# Altium footprint library AltiumDesigner.PcbLib: 151 footprints (part 6 of 10)
Each footprint in its own frame and in the unit in brackets; x right, y up, seen from the top. Pads: shape width x height; smd on the part's side, far side on the other; paste and mask are expansions set on the pad; w line width, h text height; cw(c..) or ccw(c..) is an arc to the next point about the centre after c.
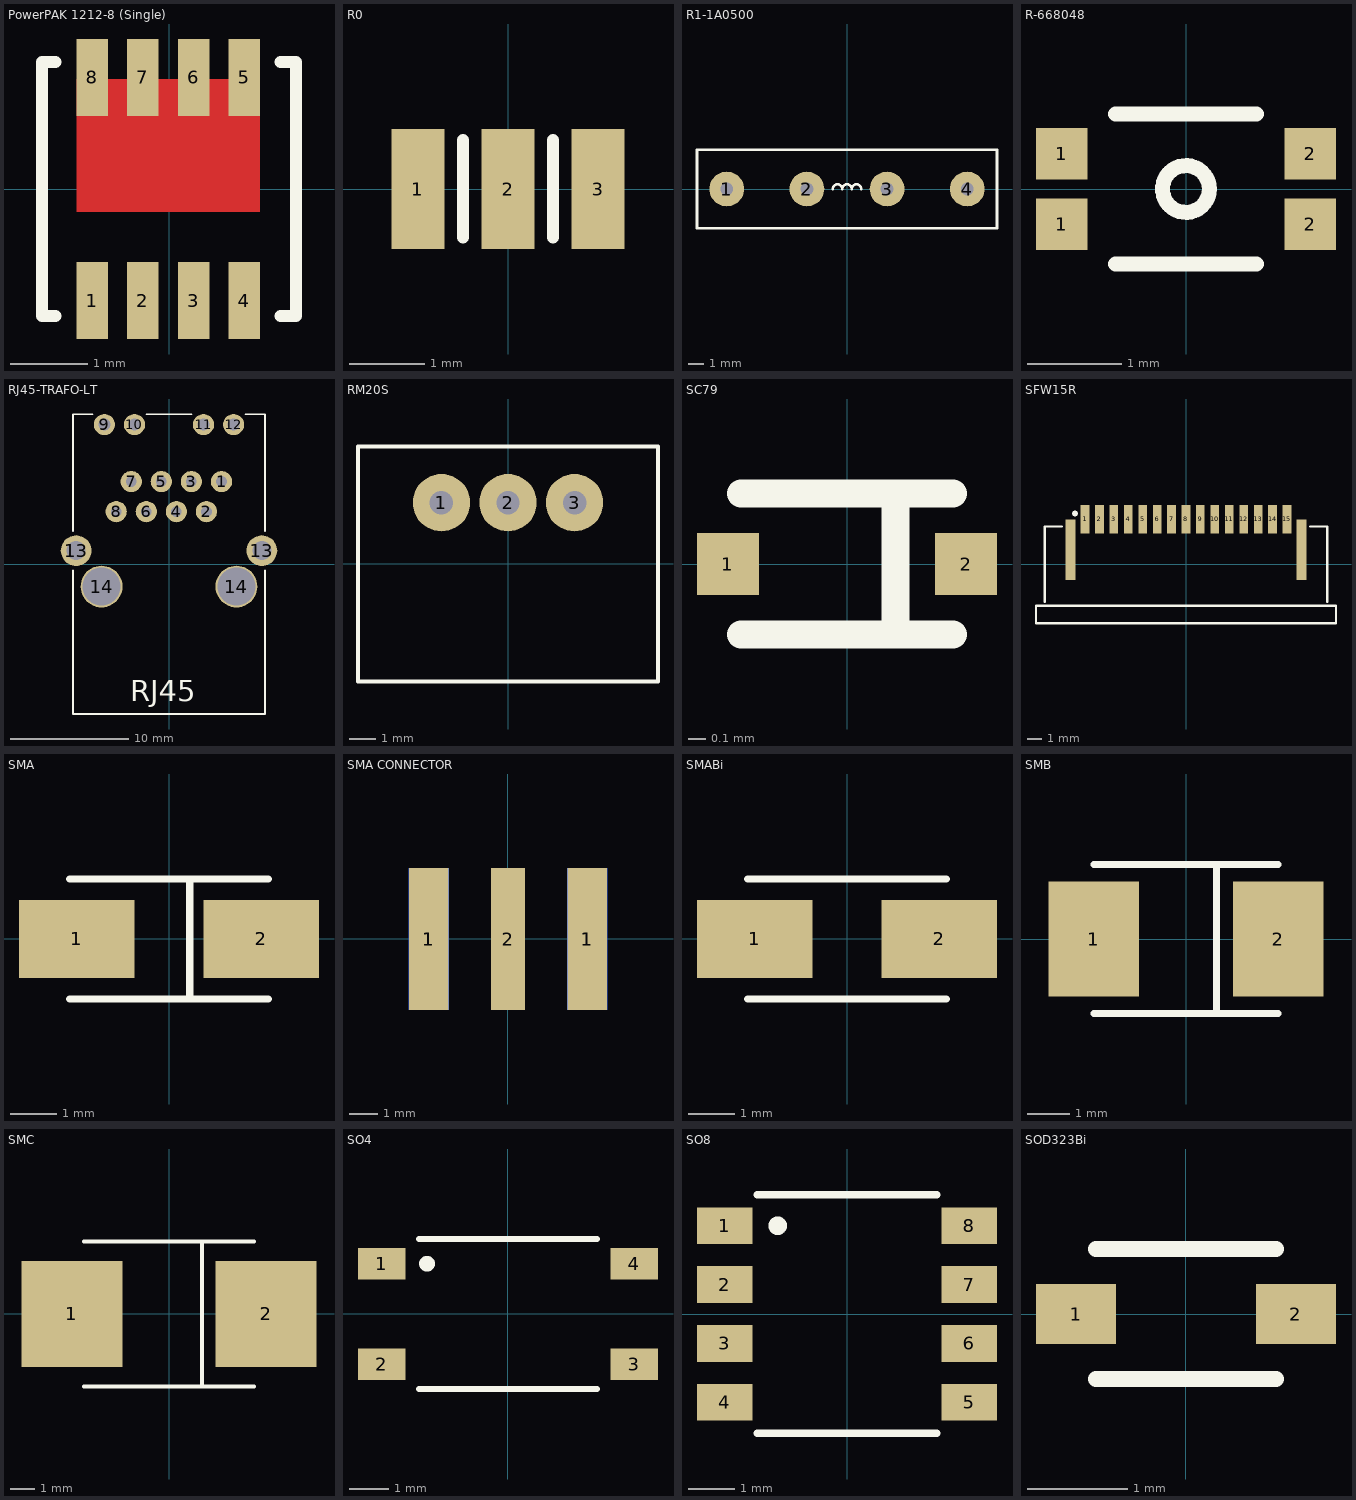
[diagram p5: the footprints below, top view; thin cyan lines are the x and y axes]

## PowerPAK 1212-8 (Single) [mm]
pads (8):
  rect 0.41x1 smd: 1(-1,-1.45) 2(-0.34,-1.45) 3(0.32,-1.45) 4(0.98,-1.45) 5(0.98,1.45) 6(0.32,1.45) 7(-0.34,1.45) 8(-1,1.45)
Top Layer:
  rectangle: -1.205,-0.3 1.185,1.43
Top Overlay:
  lines w0.16: -1.475,-1.65 -1.65,-1.65 -1.65,1.65 -1.475,1.65 ; 1.45,-1.65 1.65,-1.65 1.65,1.65 1.45,1.65

## R0 [mm]
pads (3):
  rect 0.7x1.6 smd: 1(-1.2,0) 2(0,0) 3(1.2,0)
Top Overlay:
  lines w0.16: -0.6,-0.65 -0.6,0.65 ; 0.6,-0.65 0.6,0.65

## R1-1A0500 [mm]
pads (4):
  round 2.2 hole 0.8: 1(-7.612,0) 2(-2.538,0) 3(2.537,0) 4(7.612,0)
Top Overlay:
  lines w0.16: -0.9,0 cw(c-0.6,0) -0.3,0 cw(c0,0) 0.3,0 cw(c0.6,0) 0.9,0 ; -9.5,-2.5 -9.5,2.5 9.5,2.5 9.5,-2.5 -9.5,-2.5

## R-668048 [mm]
pads (4):
  rect 0.55x0.55 smd paste-1: 1(-1.325,-0.375) 1(-1.325,0.375) 2(1.325,0.375) 2(1.325,-0.375)
Top Overlay:
  circle w0.16: c0,0 r0.25
  lines w0.16: -0.75,-0.8 0.75,-0.8 ; -0.75,0.8 0.75,0.8
Top Paste:
  region: -1.075,-0.625 -1.075,-0.125 -1.575,-0.125 -1.575,-0.625
  region: 1.575,-0.625 1.575,-0.125 1.075,-0.125 1.075,-0.625
  region: 1.575,0.125 1.575,0.625 1.075,0.625 1.075,0.125
  region: -1.075,0.125 -1.075,0.625 -1.575,0.625 -1.575,0.125

## RJ45-TRAFO-LT [mm]
pads (16):
  round 1.8 hole 0.9: 1(4.45,7) 2(3.175,4.45) 3(1.9,7) 4(0.625,4.45) 5(-0.65,7) 6(-1.925,4.45) 7(-3.2,7) 8(-4.475,4.45)
  round 1.8 hole 1: 9(-5.475,11.825) 10(-2.925,11.825) 11(2.925,11.825) 12(5.475,11.825)
  round 2.6 hole 1.6: 13(-7.875,1.15) 13(7.875,1.15)
  round 3.55 hole 3.25: 14(-5.715,-1.9) 14(5.715,-1.9)
Top Overlay:
  lines w0.16: -8.125,-0.525 -8.125,-12.7 8.125,-12.7 8.125,-0.525 ; -8.125,2.825 -8.125,12.7 -6.475,12.7 ; -1.925,12.7 1.925,12.7 ; 6.475,12.7 8.125,12.7 8.125,2.825
  text "RJ45" at -3.296,-11.603 h1.8

## RM20S [mm]
pads (3):
  round 2.2 hole 0.9: 1(-2.55,2.35) 2(0,2.35) 3(2.55,2.35)
Top Overlay:
  lines w0.16: -5.75,-4.5 -5.75,4.5 5.75,4.5 5.75,-4.5 -5.75,-4.5

## SC79 [mm]
pads (2):
  rect 0.35x0.35 smd: 1(-0.675,0) 2(0.675,0)
Top Overlay:
  lines w0.16: -0.6,-0.4 0.6,-0.4 ; -0.6,0.4 0.6,0.4 ; 0.275,-0.4 0.275,0.4

## SFW15R [mm]
pads (17):
  rect 0.6x2 smd paste-1: 1(-7,3.1) 2(-6,3.1) 3(-5,3.1) 4(-4,3.1) 5(-3,3.1) 6(-2,3.1) 7(-1,3.1) 8(0,3.1) 9(1,3.1) 10(2,3.1) 11(3,3.1) 12(4,3.1) 13(5,3.1) 14(6,3.1) 15(7,3.1)
  rect 0.7x4.2 smd paste-1: ""(-8,1) ""(8,1)
Top Overlay:
  circle w0.2: c-7.7,3.5 r0.1
  lines w0.16: -9.8,-2.625 -9.8,2.6 -8.625,2.6 ; 8.625,2.6 9.8,2.6 9.8,-2.625 ; -10.4,-4.1 -10.4,-2.9 10.4,-2.9 10.4,-4.1 -10.4,-4.1

## SMA [mm]
pads (2):
  rect 2.5x1.7 smd: 1(-2,0) 2(2,0)
Top Overlay:
  lines w0.16: -2.15,-1.3 2.15,-1.3 ; -2.15,1.3 2.15,1.3 ; 0.45,-1.3 0.45,1.3

## SMA CONNECTOR [mm]
pads (5):
  rect 1.4x5 smd paste-1: 1(-2.8,0) 1(2.8,0)
  rect 1.4x5 smd far side paste-1: 1(-2.8,0) 1(2.8,0)
  rect 1.2x5 smd paste-1: 2(0,0)

## SMABi [mm]
pads (2):
  rect 2.5x1.7 smd: 1(-2,0) 2(2,0)
Top Overlay:
  lines w0.16: -2.15,-1.3 2.15,-1.3 ; -2.15,1.3 2.15,1.3

## SMB [mm]
pads (2):
  rect 2.15x2.75 smd: 1(-2.2,0) 2(2.2,0)
Top Overlay:
  lines w0.16: -2.2,-1.775 2.2,-1.775 ; -2.2,1.775 2.2,1.775 ; 0.725,-1.775 0.725,1.775

## SMC [mm]
pads (2):
  rect 4.1x4.3 smd: 1(-3.95,0) 2(3.95,0)
Top Overlay:
  lines w0.16: -3.45,-2.95 3.45,-2.95 ; -3.45,2.95 3.45,2.95 ; 1.35,-2.95 1.35,2.95

## SO4 [mm]
pads (4):
  rect 1.2x0.8 smd: 1(-3.2,1.275) 2(-3.2,-1.275) 3(3.2,-1.275) 4(3.2,1.275)
Top Overlay:
  circle w0.3: c-2.05,1.275 r0.05
  lines w0.16: -2.25,-1.9 2.25,-1.9 ; -2.25,1.9 2.25,1.9

## SO8 [mm]
pads (8):
  rect 1.2x0.8 smd: 1(-2.65,1.913) 2(-2.65,0.637) 3(-2.65,-0.637) 4(-2.65,-1.913) 5(2.65,-1.913) 6(2.65,-0.637) 7(2.65,0.637) 8(2.65,1.913)
Top Overlay:
  circle w0.3: c-1.5,1.913 r0.05
  lines w0.16: -1.95,-2.588 1.95,-2.588 ; -1.95,2.588 1.95,2.588

## SOD323Bi [mm]
pads (2):
  rect 0.8x0.6 smd: 1(-1.1,0) 2(1.1,0)
Top Overlay:
  lines w0.16: -0.9,-0.65 0.9,-0.65 ; -0.9,0.65 0.9,0.65